# EAGLE library part USB2244I-AEZG-06-TR (library USB2244I-AEZG-06-TR)
USB Interface IC USB 2.0 SD/MMC Flash Media Contrl , 3V to 3.6V ,135mA , -40C +85C Source: Datasheet <http://www.microchip.com/mymicrochip/filehandler.aspx?ddocname=en562093>
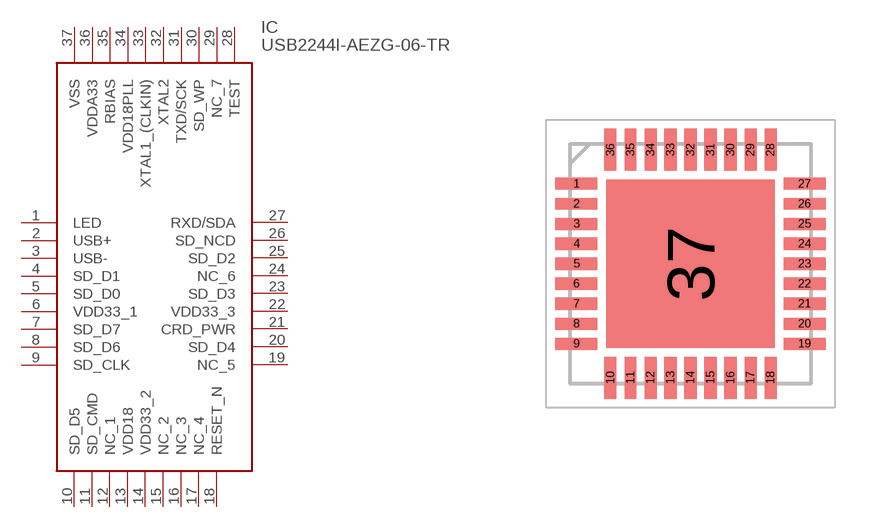
[diagram p0: symbol with the pads of QFN50P600X600X90-37N; footprint QFN50P600X600X90-37N]

Designator prefix IC

## USB2244I-AEZG-06-TR (Description: USB Interface IC USB 2.0 SD/MMC Flash Media Contrl , 3V to 3.6V ,135mA , -40C +85C; Height: 0.9mm; Manufacturer_Name: Microchip; Manufacturer_Part_Number: USB2244I-AEZG-06-TR; Mouser_Part_Number: 579-USB2244IAEZG06TR; Mouser_Price-Stock: https://www.mouser.co.uk/ProductDetail/Microchip-Technology/USB2244I-AEZG-06-TR?qs=8jfIC9vqKDsAu01KH5BS1Q%3D%3D)  [QFN50P600X600X90-37N]
1  LED
2  USB+
3  USB-
4  SD_D1
5  SD_D0
6  VDD33_1
7  SD_D7
8  SD_D6
9  SD_CLK
10  SD_D5
11  SD_CMD
12  NC_1
13  VDD18
14  VDD33_2
15  NC_2
16  NC_3
17  NC_4
18  RESET_N
19  NC_5
20  SD_D4
21  CRD_PWR
22  VDD33_3
23  SD_D3
24  NC_6
25  SD_D2
26  SD_NCD
27  RXD/SDA
28  TEST
29  NC_7
30  SD_WP
31  TXD/SCK
32  XTAL2
33  XTAL1_(CLKIN)
34  VDD18PLL
35  RBIAS
36  VDDA33
37  VSS

## Footprint QFN50P600X600X90-37N (pad centres in mm)
36 QFN
smd 1.05 x 0.3: 1 -2.85,2; 2 -2.85,1.5; 3 -2.85,1; 4 -2.85,0.5; 5 -2.85,0; 6 -2.85,-0.5; 7 -2.85,-1; 8 -2.85,-1.5; 9 -2.85,-2; 19 2.85,-2; 20 2.85,-1.5; 21 2.85,-1; 22 2.85,-0.5; 23 2.85,0; 24 2.85,0.5; 25 2.85,1; 26 2.85,1.5; 27 2.85,2
smd 0.3 x 1.05: 10 -2,-2.85; 11 -1.5,-2.85; 12 -1,-2.85; 13 -0.5,-2.85; 14 0,-2.85; 15 0.5,-2.85; 16 1,-2.85; 17 1.5,-2.85; 18 2,-2.85; 28 2,2.85; 29 1.5,2.85; 30 1,2.85; 31 0.5,2.85; 32 0,2.85; 33 -0.5,2.85; 34 -1,2.85; 35 -1.5,2.85; 36 -2,2.85
smd 4.2 x 4.2: 37 0,0